# Altium footprint library lab1.PcbLib: 14 footprints
Each footprint in its own frame and in the unit in brackets; x right, y up, seen from the top. Pads: shape width x height; smd on the part's side, far side on the other; paste and mask are expansions set on the pad; w line width, h text height; cw(c..) or ccw(c..) is an arc to the next point about the centre after c.
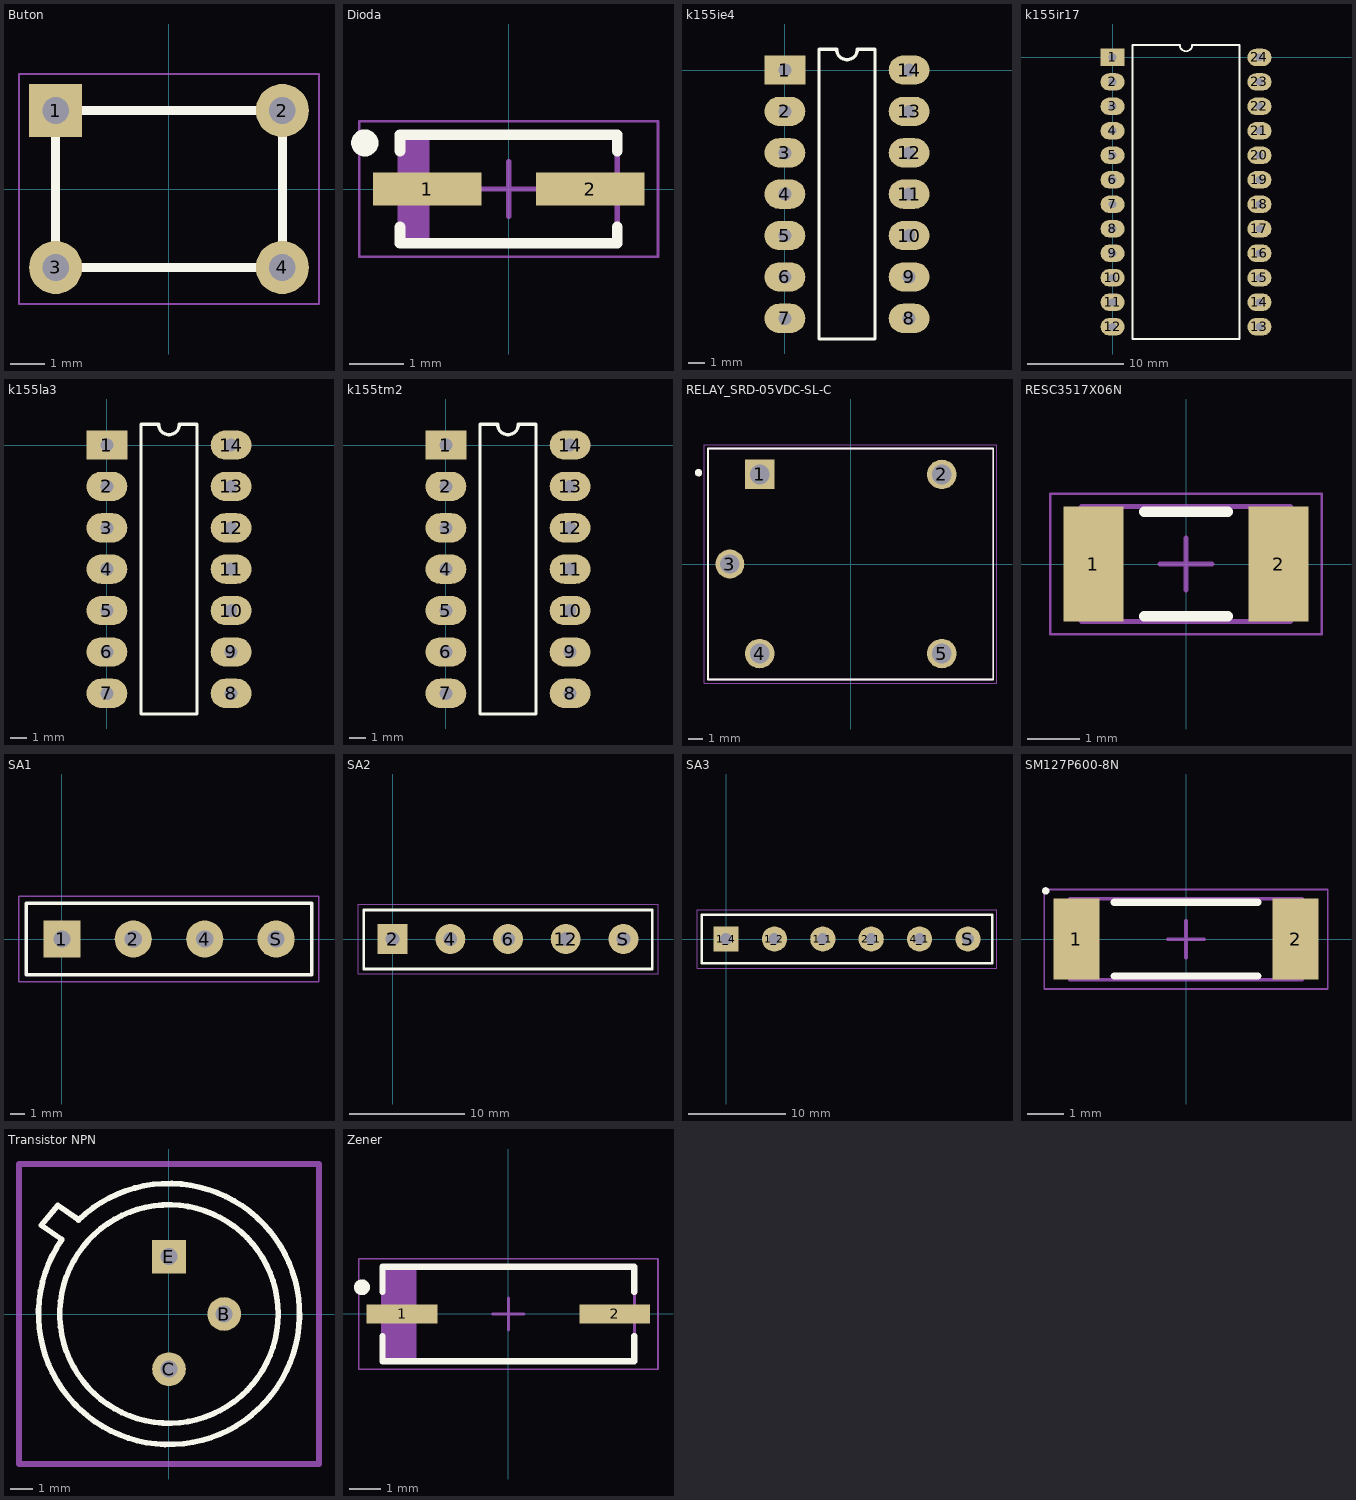
[diagram p0: the footprints below, top view; thin cyan lines are the x and y axes]

## Buton [mil] "Pushbutton PTS645"
pads (4):
  rect 60x60 hole 30: 1(-127.95,88.58)
  round 60 hole 30: 2(127.95,88.58) 3(-127.95,-88.58) 4(127.95,-88.58)
Top Overlay:
  lines w10: -127.95,-88.58 127.95,-88.58 127.95,88.58 -127.95,88.58 -127.95,-88.58
Mechanical 15:
  lines w1.97: -169.29,-129.92 169.29,-129.92 169.29,129.92 -169.29,129.92 -169.29,-129.92

## Dioda [mm] "Dioda KD522B"
height 2
pads (2):
  rect 2x0.6 smd: 1(-1.5,0) 2(1.5,0)
Top Overlay:
  circle w0.25: c-2.65,0.85 r0.125
  lines w0.2: -2,-0.7 -2,-1 2,-1 2,-0.7 ; -2,0.7 -2,1 2,1 2,0.7
Mechanical 13:
  rectangle: -2,-1 -1.462,1
  lines w0.1: -2,-1 -2,1 2,1 2,-1 -2,-1
Mechanical 15:
  lines w0.05: -2.75,-1.25 -2.75,1.25 2.75,1.25 2.75,-1.25 -2.75,-1.25
  lines w0.1: -0.5,0 0.5,0 ; 0,-0.5 0,0.5
3D body: height 2, standoff 0, extent -2,-1 2,1

## k155ie4 [mm]
pads (14):
  rect 2.5x1.8 hole 0.8: 1(0,0)
  oval 2.5x1.8 hole 0.8: 2(0,-2.54) 3(0,-5.08) 4(0,-7.62) 5(0,-10.16) 6(0,-12.7) 7(0,-15.24) 8(7.62,-15.24) 9(7.62,-12.7) 10(7.62,-10.16) 11(7.62,-7.62) 12(7.62,-5.08) 13(7.62,-2.54) 14(7.62,0)
Top Overlay:
  lines w0.2: 2.085,-16.51 2.085,1.27 3.175,1.27 ccw(c3.81,1.27) 4.445,1.27 5.535,1.27 5.535,-16.51 2.085,-16.51

## k155ir17 [mm]
pads (24):
  rect 2.5x1.8 hole 0.8: 1(0,0)
  oval 2.5x1.8 hole 0.8: 2(0,-2.54) 3(0,-5.08) 4(0,-7.62) 5(0,-10.16) 6(0,-12.7) 7(0,-15.24) 8(0,-17.78) 9(0,-20.32) 10(0,-22.86) 11(0,-25.4) 12(0,-27.94) 13(15.24,-27.94) 14(15.24,-25.4) 15(15.24,-22.86) 16(15.24,-20.32) 17(15.24,-17.78) 18(15.24,-15.24) 19(15.24,-12.7) 20(15.24,-10.16) 21(15.24,-7.62) 22(15.24,-5.08) 23(15.24,-2.54) 24(15.24,0)
Top Overlay:
  lines w0.2: 2.085,-29.21 2.085,1.27 6.985,1.27 ccw(c7.62,1.27) 8.255,1.27 13.155,1.27 13.155,-29.21 2.085,-29.21

## k155la3 [mm]
pads (14):
  rect 2.5x1.8 hole 0.8: 1(0,0)
  oval 2.5x1.8 hole 0.8: 2(0,-2.54) 3(0,-5.08) 4(0,-7.62) 5(0,-10.16) 6(0,-12.7) 7(0,-15.24) 8(7.62,-15.24) 9(7.62,-12.7) 10(7.62,-10.16) 11(7.62,-7.62) 12(7.62,-5.08) 13(7.62,-2.54) 14(7.62,0)
Top Overlay:
  lines w0.2: 2.085,-16.51 2.085,1.27 3.175,1.27 ccw(c3.81,1.27) 4.445,1.27 5.535,1.27 5.535,-16.51 2.085,-16.51

## k155tm2 [mm]
pads (14):
  rect 2.5x1.8 hole 0.8: 1(0,0)
  oval 2.5x1.8 hole 0.8: 2(0,-2.54) 3(0,-5.08) 4(0,-7.62) 5(0,-10.16) 6(0,-12.7) 7(0,-15.24) 8(7.62,-15.24) 9(7.62,-12.7) 10(7.62,-10.16) 11(7.62,-7.62) 12(7.62,-5.08) 13(7.62,-2.54) 14(7.62,0)
Top Overlay:
  lines w0.2: 2.085,-16.51 2.085,1.27 3.175,1.27 ccw(c3.81,1.27) 4.445,1.27 5.535,1.27 5.535,-16.51 2.085,-16.51

## RELAY_SRD-05VDC-SL-C [mm]
pads (5):
  rect 1.98x1.98 / inner round 1.98 / far side rect 1.98x1.98 hole 1.32: 1(-6.1,6)
  round 1.98 hole 1.32: 2(6.1,6) 4(-6.1,-6) 5(6.1,-6)
  round 1.935 hole 1.29: 3(-8.1,0)
Top Overlay:
  circle w0.3: c-10.2,6.119 r0.1
  lines w0.127: -9.55,-7.75 9.55,-7.75 9.55,7.75 -9.55,7.75 -9.55,-7.75
Mechanical 13:
  lines w0.127: -9.55,-7.75 9.55,-7.75 9.55,7.75 -9.55,7.75 -9.55,-7.75
Mechanical 15:
  lines w0.05: -9.8,-8 9.8,-8 9.8,8 -9.8,8 -9.8,-8
3D body "step_temp.STEP": height 15.8, standoff -3, extent -9.6,-7.8 9.6,7.8

## RESC3517X06N [mm] "Chip Resistor, 2-Leads, Body 3.50x1.70mm, IPC Medium Density"
height 0.6
pads (2):
  rect 1.15x2.2 smd: 1(-1.775,0) 2(1.775,0)
Top Overlay:
  lines w0.2: -0.8,-1 0.8,-1 ; -0.8,1 0.8,1
Mechanical 13:
  lines w0.1: -2,-1.1 -2,1.1 2,1.1 2,-1.1 -2,-1.1
Mechanical 15:
  lines w0.05: -2.6,-1.35 -2.6,1.35 2.6,1.35 2.6,-1.35 -2.6,-1.35
  lines w0.1: -0.5,0 0.5,0 ; 0,-0.5 0,0.5
3D body: height 0.6, standoff 0, extent -1.8,-1.1 1.8,1.1
3D body: height 0.6, standoff 0, extent -2,-1.1 -1.8,1.1
3D body: height 0.6, standoff 0, extent 1.8,-1.1 2,1.1

## SA1 [mm] "SA1 KLS2 3pins"
pads (4):
  rect 2.6x2.6 hole 1.2: 1(0,0)
  round 2.6 hole 1.2: 2(5,0) 4(10,0) S(15,0)
Top Overlay:
  lines w0.254: -2.5,-2.5 17.5,-2.5 17.5,2.5 -2.5,2.5 -2.5,-2.5
Mechanical 1:
  lines w0.1: -3,-3 -3,3 18,3 18,-0.25 18,-3 11,-3 -3,-3

## SA2 [mm] "SA1 KLS2 4pins"
pads (5):
  rect 2.6x2.6 hole 1.2: 2(0,0)
  round 2.6 hole 1.2: 4(5,0) 6(10,0) 12(15,0) S(20,0)
Top Overlay:
  lines w0.254: -2.5,-2.6 22.5,-2.6 22.5,2.5 -2.5,2.5 -2.5,-2.6
Mechanical 1:
  lines w0.1: -3,-3 23,-3 23,3 -3,3 -3,-3

## SA3 [mm] "SA1 KLS2 5pins"
pads (6):
  round 2.6 hole 1.2: 1_1(10,0) 1_2(5,0) 2_1(15,0) 4_1(20,0) S(25,0)
  rect 2.6x2.6 hole 1.2: 1_4(0,0)
Top Overlay:
  lines w0.254: -2.5,-2.5 27.5,-2.5 27.5,2.5 -2.5,2.5 -2.5,-2.5
Mechanical 1:
  lines w0.1: -3,-3 28,-3 28,3 -3,3 -3,-3

## SM127P600-8N [mm] "Capacitor"
height 11
pads (2):
  rect 1.25x2.2 smd: 1(-2.975,0) 2(2.975,0)
Top Overlay:
  circle w0.1: c-3.812,1.312 r0.05
  lines w0.2: -1.95,-1 1.95,-1 ; -1.95,1 1.95,1
Mechanical 13:
  lines w0.1: -3.15,-1.1 3.15,-1.1 3.15,1.1 -3.15,1.1 -3.15,-1.1
Mechanical 15:
  lines w0.05: -3.85,-1.35 3.85,-1.35 3.85,1.35 -3.85,1.35 -3.85,-1.35
  lines w0.1: -0.5,0 0.5,0 ; 0,-0.5 0,0.5
3D body: height 11, standoff 0, extent 2.7,-1.1 3.15,1.1
3D body: height 11, standoff 0, extent -3.15,-1.1 -2.7,1.1
3D body: height 11, standoff 0, extent -2.7,-1.1 2.7,1.1

## Transistor NPN [mm] "Transistor KT3102G"
pads (3):
  round 1.53 hole 0.762: B(2.5,0) C(0,-2.5)
  rect 1.53x1.53 hole 0.762: E(0,2.6)
Top Overlay:
  circle w0.254: c0,0 r4.95
  lines w0.254: -5.044,4.915 -5.79,4.026 -4.872,3.384 ; -5.037,4.924 -4.12,4.281 ; -4.857,3.38 ccw(c0,0) -4.105,4.262
Mechanical 15:
  lines w0.254: -6.8,-6.8 6.8,-6.8 6.8,6.8 -6.8,6.8 -6.8,-6.8

## Zener [mm] "Dioda Zener KS139A"
height 3
pads (2):
  rect 2.25x0.6 smd: 1(-3.375,0) 2(3.375,0)
Top Overlay:
  circle w0.25: c-4.65,0.85 r0.125
  lines w0.2: -4,-0.7 -4,-1.5 4,-1.5 4,-0.7 ; -4,0.7 -4,1.5 4,1.5 4,0.7
Mechanical 13:
  rectangle: -4,-1.5 -2.924,1.5
  lines w0.1: -4,-1.5 -4,1.5 4,1.5 4,-1.5 -4,-1.5
Mechanical 15:
  lines w0.05: -4.75,-1.75 -4.75,1.75 4.75,1.75 4.75,-1.75 -4.75,-1.75
  lines w0.1: -0.5,0 0.5,0 ; 0,-0.5 0,0.5
3D body: height 3, standoff 0, extent -4,-1.5 4,1.5